# Altium footprint library TO-277-3.PcbLib: 1 footprints
Each footprint in its own frame and in the unit in brackets; x right, y up, seen from the top. Pads: shape width x height; smd on the part's side, far side on the other; paste and mask are expansions set on the pad; w line width, h text height; cw(c..) or ccw(c..) is an arc to the next point about the centre after c.
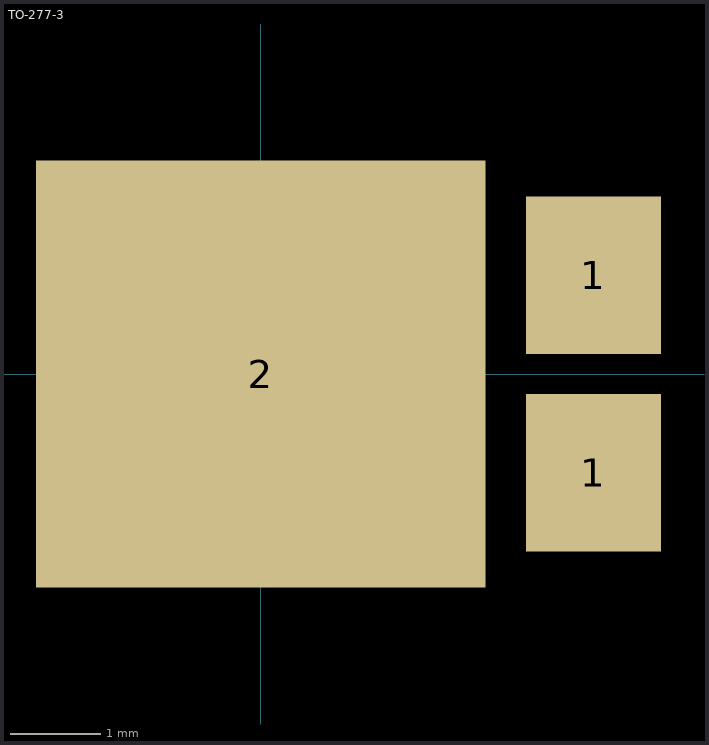
[diagram p0: the footprint, top view; thin cyan lines are the x and y axes]

## TO-277-3 [mm] "Diode Schottky 100V 20A Surface Mount TO-277-3"
height 1.2
pads (3):
  rect 1.5x1.75 smd: 1(3.7,-1.1) 1(3.7,1.1)
  rect 5x4.75 smd: 2(0,0)
3D body: height 1.2, standoff 0, extent -2.3,-2.375 4.35,2.375